# EAGLE library part EUROPWR_2X05 (library halcyonmod_Connectors)
2x05 pin header
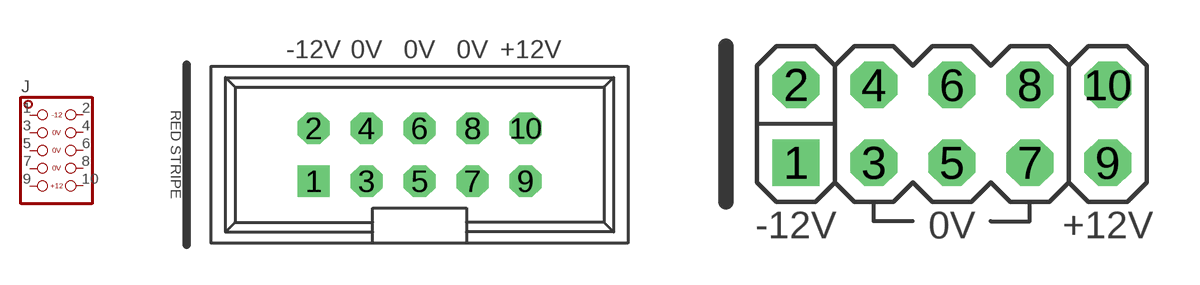
[diagram p0: symbol with the pads of 2X05_EUROPWR_SHROUD; footprints 2X05_EUROPWR_SHROUD, 2X05_EUROPWR_OPEN]

Designator prefix J

## EUROPWR_2X05-SHROUD  [2X05_EUROPWR_SHROUD]
1  1  pas
2  2  pas
3  3  pas
4  4  pas
5  5  pas
6  6  pas
7  7  pas
8  8  pas
9  9  pas
10  10  pas

## EUROPWR_2X05-OPEN  [2X05_EUROPWR_OPEN]
Pads as for 2X05_EUROPWR_SHROUD

## EUROPWR_2X05-SMD  [2X05_EUROPWR_SMD]
Pads as for 2X05_EUROPWR_SHROUD

## EUROPWR_2X05-COMBO  [COMBO_EUROPWR_TILE]
1  1  pas
2  2  pas
3  3  pas
4  4  pas
5  5  pas
6  6  pas
7  7  pas
8  8  pas
9  9  pas
10  10  pas
B  5  pas
R  9  pas
W  1  pas

## Footprint 2X05_EUROPWR_SHROUD (pad centres in mm)
2x05 Shrouded Eurorack Power Header
drill 1.016 square: 1 -5.08,-1.27
drill 1.016 octagon: 2 -5.08,1.27; 3 -2.54,-1.27; 4 -2.54,1.27; 5 0,-1.27; 6 0,1.27; 7 2.54,-1.27; 8 2.54,1.27; 9 5.08,-1.27; 10 5.08,1.27

## Footprint 2X05_EUROPWR_OPEN (pad centres in mm)
2x05 Open Eurorack Power Header
drill 1.016 square: 1 -5.08,-1.27
drill 1.016 octagon: 2 -5.08,1.27; 3 -2.54,-1.27; 4 -2.54,1.27; 5 0,-1.27; 6 0,1.27; 7 2.54,-1.27; 8 2.54,1.27; 9 5.08,-1.27; 10 5.08,1.27

## Footprint 2X05_EUROPWR_SMD (pad centres in mm)
2x05 SMD Eurorack Power Header
smd 1.016 x 3.15: 1 -5.08,-2.54; 2 -5.08,2.54; 3 -2.54,-2.54; 4 -2.54,2.54; 5 0,-2.54; 6 0,2.54; 7 2.54,-2.54; 8 2.54,2.54; 9 5.08,-2.54; 10 5.08,2.54

## Footprint COMBO_EUROPWR_TILE (pad centres in mm)
2x05 Open Eurorack Power Header
drill 1.016 square: 1 -5.08,-1.27
drill 1.016 octagon: 2 -5.08,1.27; 3 -2.54,-1.27; 4 -2.54,1.27; 5 0,-1.27; 6 0,1.27; 7 2.54,-1.27; 8 2.54,1.27; 9 5.08,-1.27; 10 5.08,1.27
drill 1.143 octagon: B 2.54,3.81; R 0,3.81; W -2.54,3.81